# EAGLE library part SF-MPU6050 (library sf-keyglovekit)
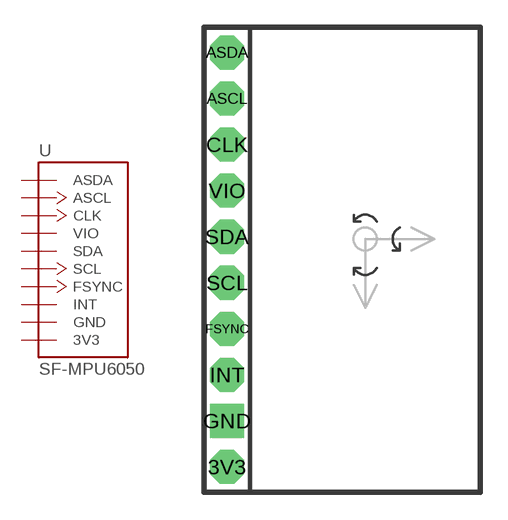
[diagram p7: symbol with the pads of SF-MPU6050; footprint SF-MPU6050]

Designator prefix -

## SF-MPU6050  [SF-MPU6050]
3V3  3V3  pwr
ASCL  ASCL
ASDA  ASDA
CLK  CLK
FSYNC  FSYNC
GND  GND  pwr
INT  INT  out
SCL  SCL
SDA  SDA
VIO  VIO  pwr

## Footprint SF-MPU6050 (pad centres in mm)
drill 1.016 pad 1.88 octagon: 3V3 1.27,1.397; ASCL 1.27,21.717; ASDA 1.27,24.257; CLK 1.27,19.177; FSYNC 1.27,9.017; INT 1.27,6.477; SCL 1.27,11.557; SDA 1.27,14.097; VIO 1.27,16.637
drill 1.016 pad 1.88 square: GND 1.27,3.937